# Altium schematic symbol library misc.SchLib: 10 symbols
Pins are listed as number, name and electrical type; pins without a type are passive.

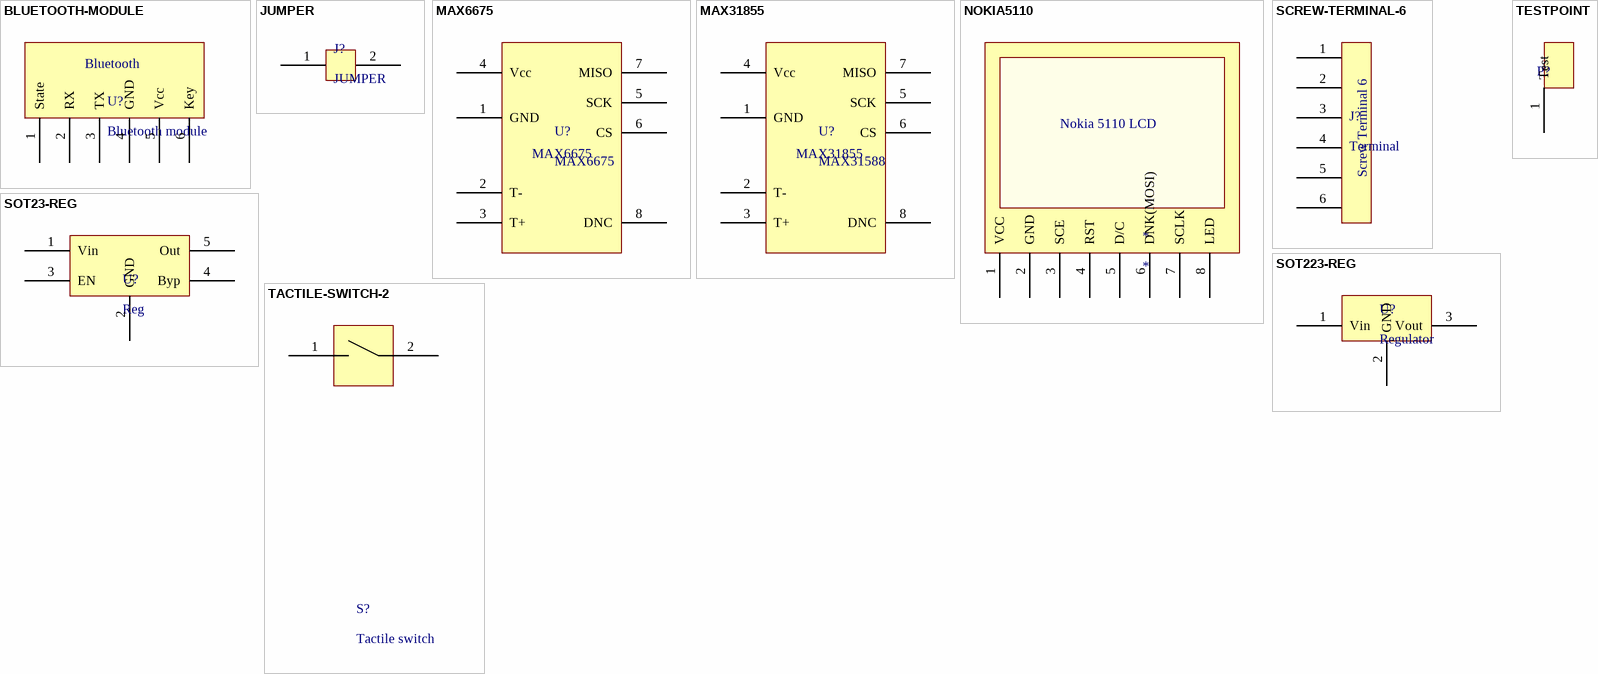
[diagram p0: symbols BLUETOOTH-MODULE to TESTPOINT]

## BLUETOOTH-MODULE
designator U?, comment Bluetooth module
footprint BLUETOOTH-MODULE (Bluetooth serial module)
pins: 1 State, 2 RX, 3 TX, 4 GND, 5 Vcc, 6 Key
text: Bluetooth

## JUMPER
designator J?
footprint JUMPER-0603 (0604 (1608) resistor based jumper)
pins: 1, 2

## MAX6675
designator U?
footprint SO8_N (Footprint not found)
pins: 1 GND, 2 T-, 3 T+, 4 Vcc, 5 SCK, 6 CS, 7 MISO, 8 DNC

## MAX31855
designator U?, comment MAX31588
footprint SO8_N (Footprint not found)
pins: 1 GND, 2 T-, 3 T+, 4 Vcc, 5 SCK, 6 CS, 7 MISO, 8 DNC

## NOKIA5110
designator *
footprint NOKIA5110 (Nokia 5110 LCD screen)
pins: 1 VCC, 2 GND, 3 SCE, 4 RST, 5 D/C, 6 DNK(MOSI), 7 SCLK, 8 LED
text: Nokia 5110 LCD

## SCREW-TERMINAL-6
designator J?, comment Terminal
Screw terminal
footprint SCREW-TERMINAL-6 (6-terminal screw 2.54mm pitch)
pins: 1, 2, 3, 4, 5, 6
text: Screw Terminal 6

## SOT23-REG
designator U?, comment Reg
Voltage regulator
pins: 1 Vin, 2 GND, 3 EN, 4 Byp, 5 Out

## SOT223-REG
designator U?, comment Regulator
SOT223 regulator
footprint SOT233 (SOT223 4-Leads)
pins: 1 Vin, 2 GND, 3 Vout, 4 GND hidden

## TACTILE-SWITCH-2
designator S?, comment Tactile switch
footprint TACTILE-SWITCH-2 (Large tactile switch)
pins: 1, 2

## TESTPOINT
designator P?  (value not drawn)
footprint Testpoint
pins: 1 Test